# Altium schematic symbol library TSD05DYFR.SchLib: 1 symbol
Pins are listed as number, name and electrical type; pins without a type are passive.

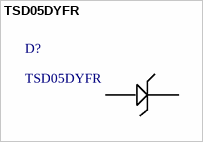
[diagram p0: symbol TSD05DYFR]

## TSD05DYFR
designator D?
5-V 60-A Unidirectional surge protection device 2-SOT -40 to 125; Manufacturer_Name: Texas Instruments; Copyright: Copyright (C) 2026 Ultra Librarian. All rights reserved.; Manufacturer_Part_Number: TSD05DYFR; RefDes: RefDes; Type: Type
footprint TVS_SOD2_DYF_TEX
pins: 1 Cátodo, 2 Ánodo